# Altium schematic symbol library SCH - MCU - NUVOTON - NUVOTON NANO102LC2AN.SchLib: 1 symbol
Pins are listed as number, name and electrical type; pins without a type are passive.

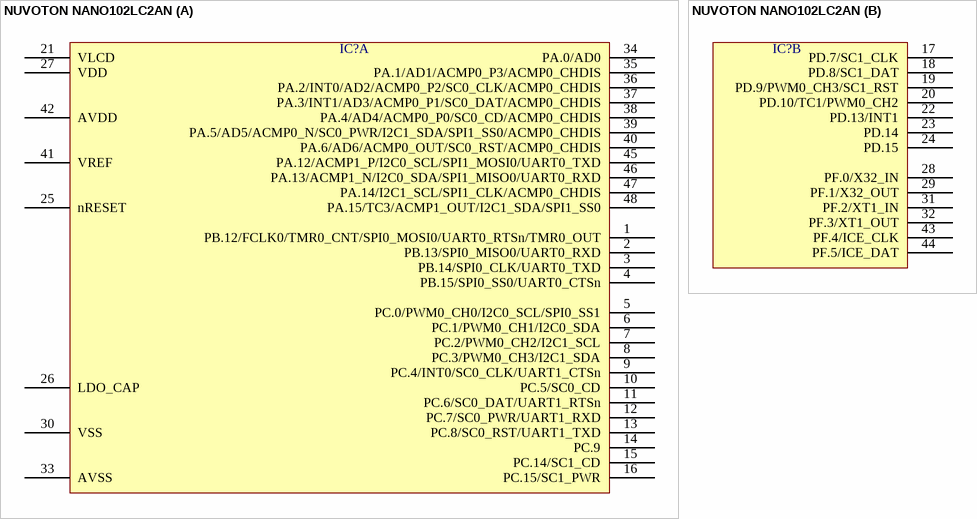
[diagram p0: symbol NUVOTON NANO102LC2AN]

## NUVOTON NANO102LC2AN
designator IC?  (value not drawn)
part A pins: 1 PB.12/FCLK0/TMR0_CNT/SPI0_MOSI0/UART0_RTSn/TMR0_OUT, 2 PB.13/SPI0_MISO0/UART0_RXD, 3 PB.14/SPI0_CLK/UART0_TXD, 4 PB.15/SPI0_SS0/UART0_CTSn, 5 PC.0/PWM0_CH0/I2C0_SCL/SPI0_SS1, 6 PC.1/PWM0_CH1/I2C0_SDA, 7 PC.2/PWM0_CH2/I2C1_SCL, 8 PC.3/PWM0_CH3/I2C1_SDA, 9 PC.4/INT0/SC0_CLK/UART1_CTSn, 10 PC.5/SC0_CD, 11 PC.6/SC0_DAT/UART1_RTSn, 12 PC.7/SC0_PWR/UART1_RXD, 13 PC.8/SC0_RST/UART1_TXD, 14 PC.9, 15 PC.14/SC1_CD, 16 PC.15/SC1_PWR, 21 VLCD, 25 nRESET, 26 LDO_CAP, 27 VDD, 30 VSS, 33 AVSS, 34 PA.0/AD0, 35 PA.1/AD1/ACMP0_P3/ACMP0_CHDIS, 36 PA.2/INT0/AD2/ACMP0_P2/SC0_CLK/ACMP0_CHDIS, 37 PA.3/INT1/AD3/ACMP0_P1/SC0_DAT/ACMP0_CHDIS, 38 PA.4/AD4/ACMP0_P0/SC0_CD/ACMP0_CHDIS, 39 PA.5/AD5/ACMP0_N/SC0_PWR/I2C1_SDA/SPI1_SS0/ACMP0_CHDIS, 40 PA.6/AD6/ACMP0_OUT/SC0_RST/ACMP0_CHDIS, 41 VREF, 42 AVDD, 45 PA.12/ACMP1_P/I2C0_SCL/SPI1_MOSI0/UART0_TXD, 46 PA.13/ACMP1_N/I2C0_SDA/SPI1_MISO0/UART0_RXD, 47 PA.14/I2C1_SCL/SPI1_CLK/ACMP0_CHDIS, 48 PA.15/TC3/ACMP1_OUT/I2C1_SDA/SPI1_SS0
part B pins: 17 PD.7/SC1_CLK, 18 PD.8/SC1_DAT, 19 PD.9/PWM0_CH3/SC1_RST, 20 PD.10/TC1/PWM0_CH2, 22 PD.13/INT1, 23 PD.14, 24 PD.15, 28 PF.0/X32_IN, 29 PF.1/X32_OUT, 31 PF.2/XT1_IN, 32 PF.3/XT1_OUT, 43 PF.4/ICE_CLK, 44 PF.5/ICE_DAT